# Altium schematic symbol library MPL3115A2.SchLib: 1 symbol
Pins are listed as number, name and electrical type; pins without a type are passive.

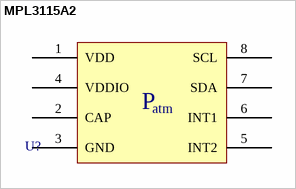
[diagram p0: symbol MPL3115A2]

## MPL3115A2
designator U?  (value not drawn)
pins: 1 VDD, 2 CAP, 3 GND, 4 VDDIO, 5 INT2, 6 INT1, 7 SDA, 8 SCL
text: P; atm